# EAGLE library part AS5048A (library ProjectOnly6)
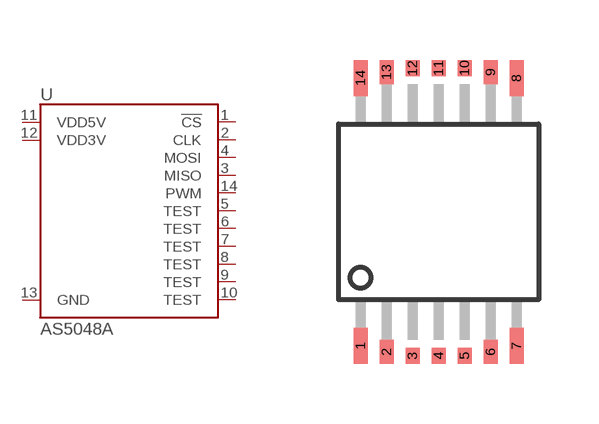
[diagram p10: symbol with the pads of TSSOP14-MAGNET; footprint TSSOP14-MAGNET]

Designator prefix U

## AS5048A  [TSSOP14-MAGNET]
1  !CS
2  CLK
3  MISO
4  MOSI
5  TEST
6  TEST
7  TEST
8  TEST
9  TEST
10  TEST
11  VDD5V
12  VDD3V
13  GND
14  PWM

## Footprint TSSOP14-MAGNET (pad centres in mm)
smd 0.35 x 0.9: 1 -1.95,-3.35; 7 1.95,-3.35; 8 1.95,3.35; 14 -1.95,3.35
smd 0.35 x 0.6: 2 -1.3,-3.5; 6 1.3,-3.5; 9 1.3,3.5; 13 -1.3,3.5
smd 0.35 x 0.4: 3 -0.65,-3.6; 4 0,-3.6; 5 0.65,-3.6; 10 0.65,3.6; 11 0,3.6; 12 -0.65,3.6